# Altium schematic symbol library BQ34Z100.SchLib: 1 symbol
Pins are listed as number, name and electrical type; pins without a type are passive.

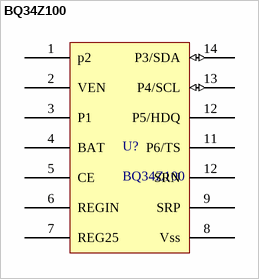
[diagram p0: symbol BQ34Z100]

## BQ34Z100
designator U?
pins: 1 p2, 2 VEN, 3 P1, 4 BAT, 5 CE, 6 REGIN, 7 REG25, 8 Vss, 9 SRP, 11 P6/TS, 12 P5/HDQ, 12 SRN, 13 P4/SCL (io), 14 P3/SDA (io)